# EAGLE library part CREEXTE (library LillyLib)
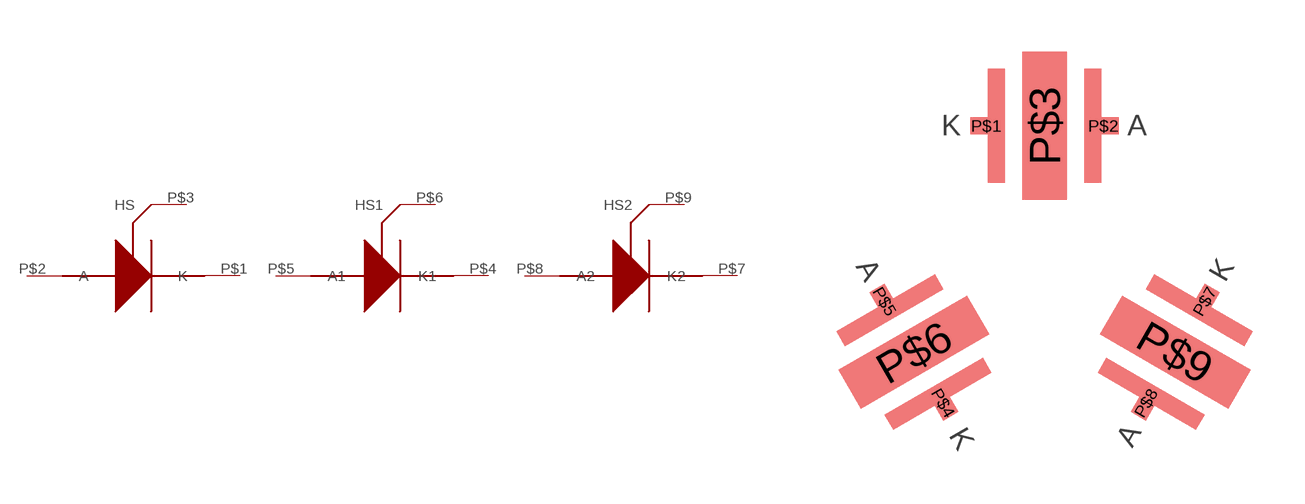
[diagram p1: symbol with the pads of CREEXTE; footprint CREEXTE]

Designator prefix LED

## CREEXTE  [CREEXTE]
P$1  K
P$2  A
P$3  HS
P$4  K1
P$5  A1
P$6  HS1
P$7  K2
P$8  A2
P$9  HS2

## Footprint CREEXTE (pad centres in mm)
smd 0.9 x 0.5: P$1 -1.7,4.379; P$2 1.7,4.379
smd 1.3 x 4.3: P$3 0,4.379
smd 0.9 x 0.5 rotated 120: P$4 -2.942,-3.662; P$5 -4.642,-0.717
smd 1.3 x 4.3 rotated 120: P$6 -3.792,-2.189
smd 0.9 x 0.5 rotated 240: P$7 4.642,-0.717; P$8 2.942,-3.662
smd 1.3 x 4.3 rotated 240: P$9 3.792,-2.189